# Altium integrated library Zarlink Comm Protocol Controller.IntLib: 3 symbols
Pins are listed as number, name and electrical type; pins without a type are passive.

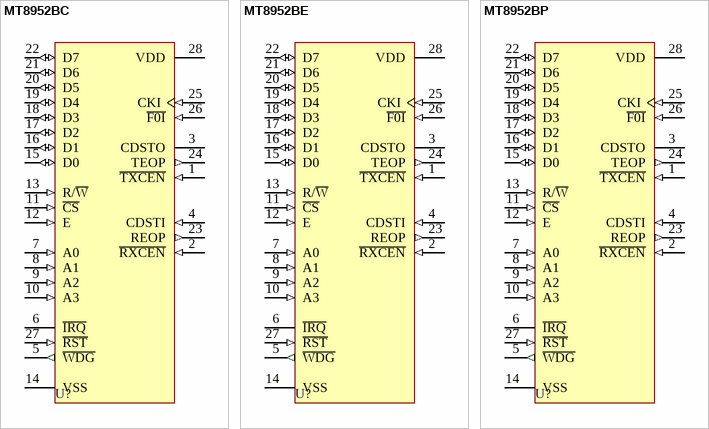
[diagram p0: symbols MT8952BC to MT8952BP]

## MT8952BC
designator U?
HDLC Protocol Controller; Published: 8-Jun-2000; LatestRevisionDate: 17-Jul-2002; LatestRevisionNote: Re-released for DXP Platform.; DatasheetVersion: Issue 5 May 1995; PackageVersion: 1995; PackageReference: CDIP28; Publisher: Altium Limited; PackageDescription: DIP; 28 Leads; Row Spacing 15.24 mm; Pitch 2.54 mm; ComponentLink1Description: Manufacturer Link; ComponentLink1URL: http://www.zarlink.com/; ComponentLink2Description: Datasheet; ComponentLink2URL: http://assets.zarlink.com/DS/zarlink_MT8952_FEB_05.pdf
footprint CDIP28 (DIP; 28 Leads; Row Spacing 15.24 mm; Pitch 2.54 mm)
pins: 1 ~{TXCEN} (in), 2 ~{RXCEN} (in), 3 CDSTO (hiz), 4 CDSTI (in), 5 ~{WDG} (out), 6 ~{IRQ} (oc), 7 A0 (in), 8 A1 (in), 9 A2 (in), 10 A3 (in), 11 ~{CS} (in), 12 E (in), 13 R/~{W} (in), 14 VSS (power), 15 D0 (io), 16 D1 (io), 17 D2 (io), 18 D3 (io), 19 D4 (io), 20 D5 (io), 21 D6 (io), 22 D7 (io), 23 REOP (out), 24 TEOP (out), 25 CKI (in), 26 ~{F0I} (in), 27 ~{RST} (in), 28 VDD (power)

## MT8952BE
designator U?
HDLC Protocol Controller; Published: 8-Jun-2000; LatestRevisionDate: 17-Jul-2002; LatestRevisionNote: Re-released for DXP Platform.; DatasheetVersion: Issue 6 March 1997; PackageVersion: 1997; PackageReference: PDIP28; Publisher: Altium Limited; PackageDescription: DIP; 28 Leads; Row Spacing 15.24 mm; Pitch 2.54 mm; Code_JEDEC: MS-011-AB; ComponentLink1Description: Manufacturer Link; ComponentLink1URL: http://www.zarlink.com/; ComponentLink2Description: Datasheet; ComponentLink2URL: http://assets.zarlink.com/DS/zarlink_MT8952_FEB_05.pdf
footprint PDIP28 (DIP; 28 Leads; Row Spacing 15.24 mm; Pitch 2.54 mm)
pins: 1 ~{TXCEN} (in), 2 ~{RXCEN} (in), 3 CDSTO (hiz), 4 CDSTI (in), 5 ~{WDG} (out), 6 ~{IRQ} (oc), 7 A0 (in), 8 A1 (in), 9 A2 (in), 10 A3 (in), 11 ~{CS} (in), 12 E (in), 13 R/~{W} (in), 14 VSS (power), 15 D0 (io), 16 D1 (io), 17 D2 (io), 18 D3 (io), 19 D4 (io), 20 D5 (io), 21 D6 (io), 22 D7 (io), 23 REOP (out), 24 TEOP (out), 25 CKI (in), 26 ~{F0I} (in), 27 ~{RST} (in), 28 VDD (power)

## MT8952BP
designator U?
HDLC Protocol Controller; Published: 8-Jun-2000; LatestRevisionDate: 13-Apr-2006; LatestRevisionNote: IPC-7351 Footprint Added.; DatasheetVersion: Issue 6 March 1997; PackageVersion: 1997; PackageReference: PLCC28; Publisher: Altium Limited; PackageDescription: 28-Pin Leaded Chip Carrier 1.27 mm Pitch; Code_IPC: PLCC-28; ComponentLink1Description: Manufacturer Link; ComponentLink1URL: http://www.zarlink.com/; ComponentLink2Description: Datasheet; ComponentLink2URL: http://assets.zarlink.com/DS/zarlink_MT8952_FEB_05.pdf
footprint PLCC28_N (Leaded Chip Carrier, 28-Leads, Body 11.5x11.5mm, Pitch 1.27mm, IPC Medium Density)
footprint PLCC28_L (Leaded Chip Carrier, 28-Leads, Body 11.5x11.5mm, Pitch 1.27mm, IPC High Density)
footprint PLCC28_M (Leaded Chip Carrier, 28-Leads, Body 11.5x11.5mm, Pitch 1.27mm, IPC Low Density)
pins: 1 ~{TXCEN} (in), 2 ~{RXCEN} (in), 3 CDSTO (hiz), 4 CDSTI (in), 5 ~{WDG} (out), 6 ~{IRQ} (oc), 7 A0 (in), 8 A1 (in), 9 A2 (in), 10 A3 (in), 11 ~{CS} (in), 12 E (in), 13 R/~{W} (in), 14 VSS (power), 15 D0 (io), 16 D1 (io), 17 D2 (io), 18 D3 (io), 19 D4 (io), 20 D5 (io), 21 D6 (io), 22 D7 (io), 23 REOP (out), 24 TEOP (out), 25 CKI (in), 26 ~{F0I} (in), 27 ~{RST} (in), 28 VDD (power)